# Altium footprint library Resistor.PcbLib: 17 footprints (part 1 of 2)
Each footprint in its own frame and in the unit in brackets; x right, y up, seen from the top. Pads: shape width x height; smd on the part's side, far side on the other; paste and mask are expansions set on the pad; w line width, h text height; cw(c..) or ccw(c..) is an arc to the next point about the centre after c.
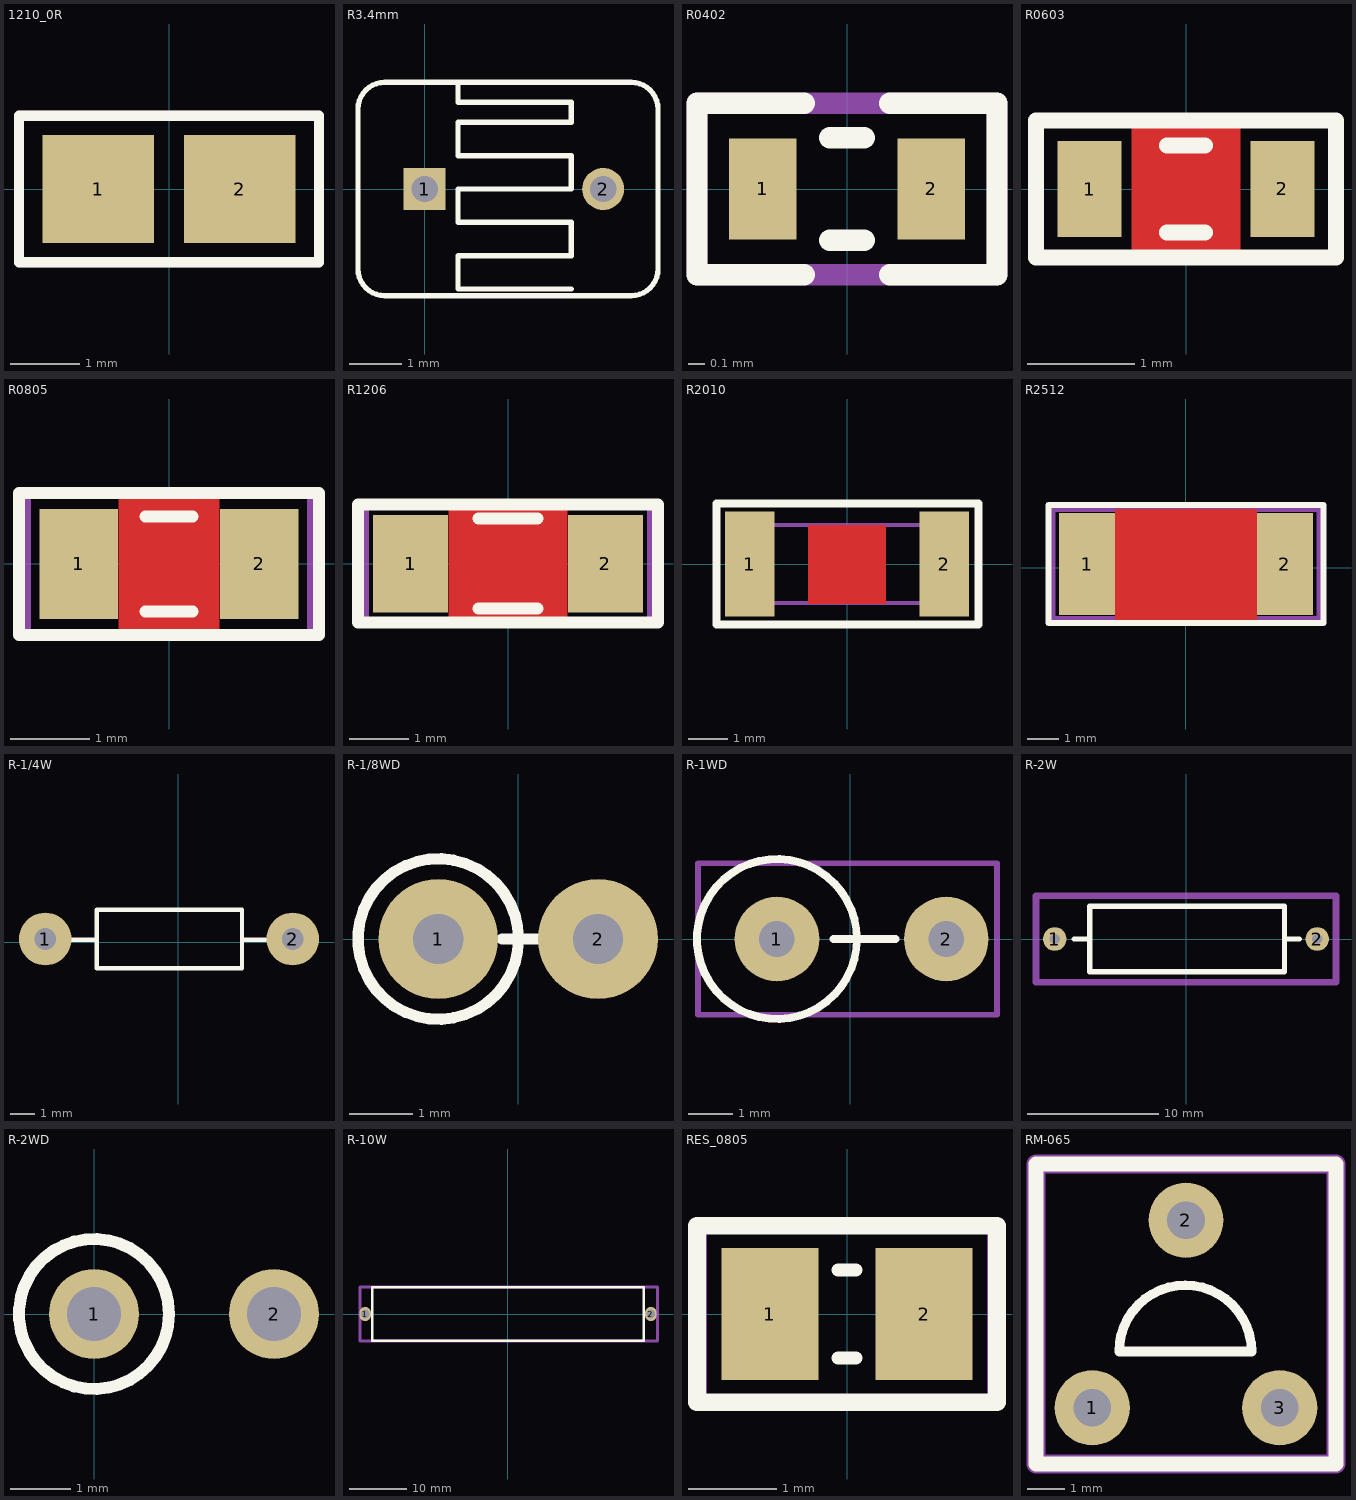
[diagram p0: the footprints below, top view; thin cyan lines are the x and y axes]

## 1210_0R [mm] "Chip Resistor, 2-Leads, Body 3.05x1.50mm, IPC Medium Density"
height 0.45
pads (2):
  rect 1.6x1.55 smd: 1(-1.016,0) 2(1.016,0)
Top Overlay:
  lines w0.15: -2.15,-1.05 -2.15,1.05 2.15,1.05 2.15,-1.05 -2.15,-1.05
Mechanical 13:
  lines w0.15: -2.15,-1.05 -2.15,1.05 2.15,1.05 2.15,-1.05 -2.15,-1.05
Mechanical 15:
  lines w0.15: -2.15,-1.05 2.15,-1.05 2.15,1.05 -2.15,1.05 -2.15,-1.05
3D body "RESC3015X04N.step": height 0.45, standoff 0, extent -1.55,-0.75 1.55,0.75

## R3.4mm [mm]
pads (2):
  rect 0.8x0.8 hole 0.5: 1(0,0)
  round 0.8 hole 0.5: 2(3.4,0)
Top Overlay:
  lines w0.1: 0.635,2.032 0.635,1.651 2.794,1.651 2.794,1.27 0.635,1.27 0.635,0.635 2.794,0.635 2.794,0 0.635,0 0.635,-0.635 2.794,-0.635 2.794,-1.27 0.635,-1.27 0.635,-1.905 2.794,-1.905 ; -0.762,2.032 ccw(c-0.762,1.524) -1.27,1.524 -1.27,1.143 -1.27,-1.524 ccw(c-0.762,-1.524) -0.762,-2.032 3.937,-2.032 ccw(c3.937,-1.524) 4.445,-1.524 4.445,1.523 ccw(c3.936,1.523) 3.936,2.032 ; -0.762,2.032 3.936,2.032 ; -0.762,2.032 3.936,2.032 ; 3.936,2.032 ccw(c3.936,2.032) 3.936,2.032
3D body: height 4, standoff 0, extent 3.251,-0.15 3.55,0.15
3D body: height 4, standoff 0, extent -0.149,-0.15 0.15,0.15
3D body: height 12, standoff -4, extent -0.381,0.381 -0.381,0.381
3D body: height 4.5, standoff 4, extent -1.27,-2.032 4.445,2.032
3D body: height 12, standoff -4, extent -0.762,2.032 -0.762,2.032

## R0402 [mm]
pads (2):
  rect 0.4x0.6 smd: 1(-0.5,0) 2(0.5,0)
Top Overlay:
  lines w0.127: -0.254,-0.508 -0.889,-0.508 -0.889,0.508 -0.254,0.508 ; -0.102,-0.305 0.102,-0.305 ; -0.102,0.305 0.102,0.305 ; 0.254,-0.508 0.889,-0.508 0.889,0.508 0.254,0.508
Mechanical 13:
  lines w0.127: -0.889,-0.508 0.889,-0.508 0.889,0.508 -0.889,0.508 -0.889,-0.508
  text ".Designator" at -0.508,0 h0.64
Mechanical 15:
  lines w0.127: -0.889,-0.508 0.889,-0.508 0.889,0.508 -0.889,0.508 -0.889,-0.508
  text ".Comment" at -0.508,0 h0.64
3D body "User Library-0402 SMD Capacitor.step": height 0.2, standoff 0, extent -0.5,-0.3 0.5,0.3

## R0603 [mm]
pads (2):
  rect 0.6x0.9 smd: 1(-0.9,0) 2(0.9,0)
Top Layer:
  pour cut-out: -0.508,0.64 -0.508,-0.635 0.508,-0.635 0.508,0.64
Top Overlay:
  lines w0.15: -0.178,-0.406 0.178,-0.406 ; -0.178,0.406 0.178,0.406 ; -1.4,-0.64 -1.4,0.64 0.4,0.64 1.4,0.64 1.4,-0.64 0.4,-0.64 -1.4,-0.64
Mechanical 13:
  lines w0.1: -1.4,-0.64 -1.4,0.64 0.4,0.64 1.4,0.64 1.4,-0.64 0.4,-0.64 -1.4,-0.64
  text ".Designator" at -1.27,-0.254 h1
Mechanical 15:
  lines w0.1: -1.4,-0.64 -1.4,0.64 0.4,0.64 1.4,0.64 1.4,-0.64 0.4,-0.64 -1.4,-0.64
  text ".Comment" at -1.27,-0.254 h1
3D body "RC0603N.stp": height 0.71, standoff 0, extent -0.8,-0.406 0.8,0.406

## R0805 [mil]
pads (2):
  rect 39.37x55 smd: 1(-45,0) 2(45,0)
Top Layer:
  pour cut-out: -25,35.43 -25,-35.43 25,-35.43 25,35.43
Top Overlay:
  lines w5.91: -11.81,-23.62 11.81,-23.62 ; -11.81,23.62 11.81,23.62 ; -74.8,-35.43 15.75,-35.43 74.8,-35.43 74.8,35.43 15.75,35.43 -74.8,35.43 -74.8,-35.43
Mechanical 13:
  lines w3.94: -70.87,-35.43 -70.87,35.43 15.75,35.43 70.87,35.43 70.87,-35.43 15.75,-35.43 -70.87,-35.43
  text ".Designator" at -40,-10 h39.37
Mechanical 15:
  lines w3.94: -70.87,-35.43 15.75,-35.43 70.87,-35.43 70.87,35.43 15.75,35.43 -70.87,35.43 -70.87,-35.43
  text ".Comment" at -17,-11 h39.37
3D body "RC0805N.stp": height 27.99, standoff 0, extent -39.36,-23.62 39.38,23.63

## R1206 [mil]
pads (2):
  rect 50x65 smd: 1(-65,0) 2(65,0)
Top Layer:
  pour cut-out: -39.37,39.37 -39.37,-40 39.37,-40 39.37,39.37
Top Overlay:
  lines w7.87: -19.68,-30 19.68,-30 ; -19.68,30 19.68,30 ; -100,-39.37 -100,39.37 31.5,39.37 100,39.37 100,-39.37 31.5,-39.37 -100,-39.37
Mechanical 13:
  lines w3.94: -94.49,-39.37 -94.49,39.37 31.5,39.37 94.49,39.37 94.49,-39.37 31.5,-39.37 -94.49,-39.37
  text ".Designator" at -65,0 h25
Mechanical 15:
  lines w3.94: -94.49,-39.37 31.5,-39.37 94.49,-39.37 94.49,39.37 31.5,39.37 -94.49,39.37 -94.49,-39.37
  text ".Comment" at -65,0 h25
3D body "User Library-Chip Resistor_1206 (3216).STEP": height 22.24, standoff 0, extent -61.02,-30.74 61.02,30.36
3D body "RC1206N.stp": height 27.99, standoff 0, extent -67.99,-31.49 58,31.51

## R2010 [mm]
pads (2):
  rect 1.27x2.7 smd: 1(-2.5,0) 2(2.5,0)
Top Layer:
  pour cut-out: -1,1 -1,-1.016 1,-1.016 1,1
Top Overlay:
  lines w0.2: -3.353,-1.549 3.378,-1.549 3.378,1.549 -3.302,1.549 -3.353,1.549 -3.353,-1.549
Mechanical 13:
  lines w0.1: -2.4,-1 -2.4,1 0.8,1 2.4,1 2.4,-1 0.8,-1 -2.4,-1
  text ".Designator" at -1.651,0 h0.64
Mechanical 15:
  lines w0.1: -2.4,-1 0.8,-1 2.4,-1 2.4,1 0.8,1 -2.4,1 -2.4,-1
  text ".Comment" at -1.651,0 h0.64
3D body "User Library-Chip Resistor_1206 (3216).STEP": height 0.57, standoff 0, extent -1.55,-0.781 1.55,0.771
3D body "RC1206N.stp": height 0.71, standoff 0, extent -1.727,-0.8 1.473,0.8

## R2512 [mm]
pads (2):
  rect 1.8x3.3 smd: 1(-3.2,0.127) 2(3.2,0.127)
Top Layer:
  pour cut-out: -2.286,1.905 -2.286,-1.7 2.286,-1.7 2.286,1.905
Top Overlay:
  lines w0.2: -4.445,-1.778 -4.445,2.032 4.445,2.032 4.445,-1.778 -4.445,-1.778
Mechanical 13:
  lines w0.2: -4.318,-1.651 4.318,-1.651 4.318,1.905 -4.318,1.905 -4.318,-1.651
  text ".Designator" at -3.302,-0.127 h1.5
Mechanical 15:
  lines w0.2: -4.318,-1.651 4.318,-1.651 4.318,1.905 -4.318,1.905 -4.318,-1.651
  text ".Comment" at -3.175,-0.127 h1.5
3D body "User Library-SMD RESISTOR-1 (9).step": height 0.6, standoff 0, extent -3.2,-1.473 3.2,1.727

## R-1/4W [mil]
height 100
pads (2):
  round 85 hole 35: 1(-215,5) 2(185,5)
Top Overlay:
  lines w7: -173,4 -132,4 ; 103,4 141,4 ; -132,-42.24 -132,52.25 103,52.25 103,-42.24 -132,-42.24
3D body "User Library-Res40-Axial Short 0_25W-0_1R.step": height 95, standoff -78.74, extent -226.8,-42.24 196.82,52.25

## R-1/8WD [mm]
height 2.54
pads (2):
  round 1.905 hole 0.8: 1(-1.27,0) 2(1.27,0)
Top Overlay:
  circle w0.178: c-1.27,0 r1.276
  lines w0.178: -0.254,0 0.381,0
3D body "SW3dPS-Res_Stand.STEP": height 7.3, standoff -1.45, extent -2.159,-0.92 1.553,0.92

## R-1WD [mm]
height 2.54
pads (2):
  round 1.905 hole 0.8: 1(-1.651,0) 2(2.159,0)
Top Overlay:
  circle w0.178: c-1.651,0 r1.8
  lines w0.178: -0.381,0 1.016,0
Mechanical 13:
  lines w0.127: -3.429,-1.702 3.302,-1.702 3.302,1.702 -3.429,1.702 -3.429,-1.676 -3.429,-1.702
  text ".Designator" at -1.651,0 h0.64
3D body "SW3DPS-0_5W METAL FILM RESISTOR-DEFAULT.STEP": height 12.65, standoff -5.05, extent -3.429,-1.7 2.671,1.7

## R-2W [mm]
pads (2):
  round 1.8 hole 0.8: 1(-10,0) 2(10,0)
Top Overlay:
  lines w0.4: -8.509,0 -7.333,0 ; 7.516,0 8.636,0 ; -7.333,-2.5 7.5,-2.5 7.5,2.5 -7.333,2.5 -7.333,-2.5
Mechanical 13:
  lines w0.5: -11.43,-3.302 -11.43,3.302 11.43,3.302 11.43,-3.302 -11.43,-3.302
  text ".Designator" at -7.874,-0.635 h3
3D body "Res20mm.STEP": height 7.2, standoff -1.6, extent -10.559,-3.2 10.541,3.2

## R-2WD [mm]
pads (2):
  round 1.5 hole 0.9: 1(0,0) 2(3,0)
Top Overlay:
  circle w0.2: c0,0 r1.25
3D body: height 11.8, standoff 0.3, extent -1.24,-1.248 1.25,1.248

## R-10W [mm]
pads (2):
  oval 2x2.5 hole 1.5: 1(-25,0) 2(25,0)
Top Overlay:
  lines w0.4: -23.75,-4.699 -23.75,4.699 23.75,4.699 23.75,-4.699 -23.75,-4.699
Mechanical 13:
  lines w0.5: -25.905,-4.699 -25.905,4.699 26.165,4.699 26.165,-4.699 -25.905,-4.699
  text ".Designator" at -12.065,-0.508 h3
Mechanical 15:
  lines w0.5: -25.905,-4.699 26.165,-4.699 26.165,4.699 -25.905,4.699 -25.905,-4.699
  text ".Comment" at -12.065,-0.508 h3
3D body "SQP10AJB-10R.STEP": height 10.55, standoff -4.04, extent -24.9,-4.5 24.9,4.5

## RES_0805 [mm]
pads (2):
  rect 1.1x1.5 smd: 1(-0.875,0) 2(0.875,0)
Top Overlay:
  lines w0.15: -0.1,-0.5 0.1,-0.5 ; -0.1,0.5 0.1,0.5
  lines w0.2: -1.7,-1 -1.7,1 1.7,1 1.7,-1 -1.7,-1
Mechanical 13:
  lines w0.127: -1.651,-1.016 -1.651,1.016 1.651,1.016 1.651,-1.016 -1.651,-1.016
  text ".Designator" at -1.016,-0.254 h0.64
Mechanical 15:
  lines w0.127: -1.651,-1.016 -1.651,1.016 1.651,1.016 1.651,-1.016 -1.651,-1.016
  text ".Comment" at -0.432,-0.279 h0.64
3D body "res0805.STEP": height 0.5, standoff 0, extent -1,-0.625 1,0.625

## RM-065 [mm]
pads (3):
  round 2 hole 1: 1(-10,6.25) 2(-7.5,11.25) 3(-5,6.25)
Top Overlay:
  lines w0.254: -9.286,7.75 cw(c-7.518,7.75) -5.75,7.75 -9.286,7.75
  lines w0.4: -11.5,4.75 -3.5,4.75 -3.5,12.75 -11.5,12.75 -11.5,4.75
Mechanical 13:
  lines w0.5: -11.5,4.75 -11.5,12.75 -3.5,12.75 -3.5,4.75 -11.5,4.75
  text ".Designator" at -9.25,8 h3
3D body "User Library-RM-065.STEP": height 7.7, standoff -3.1, extent -10.75,5.507 -4.25,12.75